# Altium schematic symbol library Power-BMIC-PW4036.SchLib: 1 symbol
Pins are listed as number, name and electrical type; pins without a type are passive.

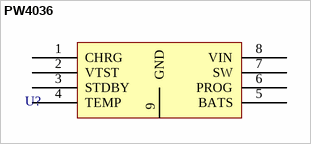
[diagram p0: symbol PW4036]

## PW4036
designator U?
pins: 1 CHRG, 2 VTST, 3 STDBY, 4 TEMP, 5 BATS, 6 PROG, 7 SW, 8 VIN, 9 GND